# Altium schematic symbol library 2x5_Header.SchLib: 1 symbol
Pins are listed as number, name and electrical type; pins without a type are passive.

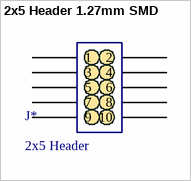
[diagram p0: symbol 2x5 Header 1.27mm SMD]

## 2x5 Header 1.27mm SMD
designator J*, comment 2x5 Header
2x5 1.27mm pitch SMD header
footprint 2x5_1.27mm (2x5 1.27mm pitch SMD Header)
pins: 1, 2, 3, 4, 5, 6, 7, 8, 9, 10